# Altium integrated library Infineon_Power_MOSFET.IntLib: 1448 symbols (part 5 of 47)
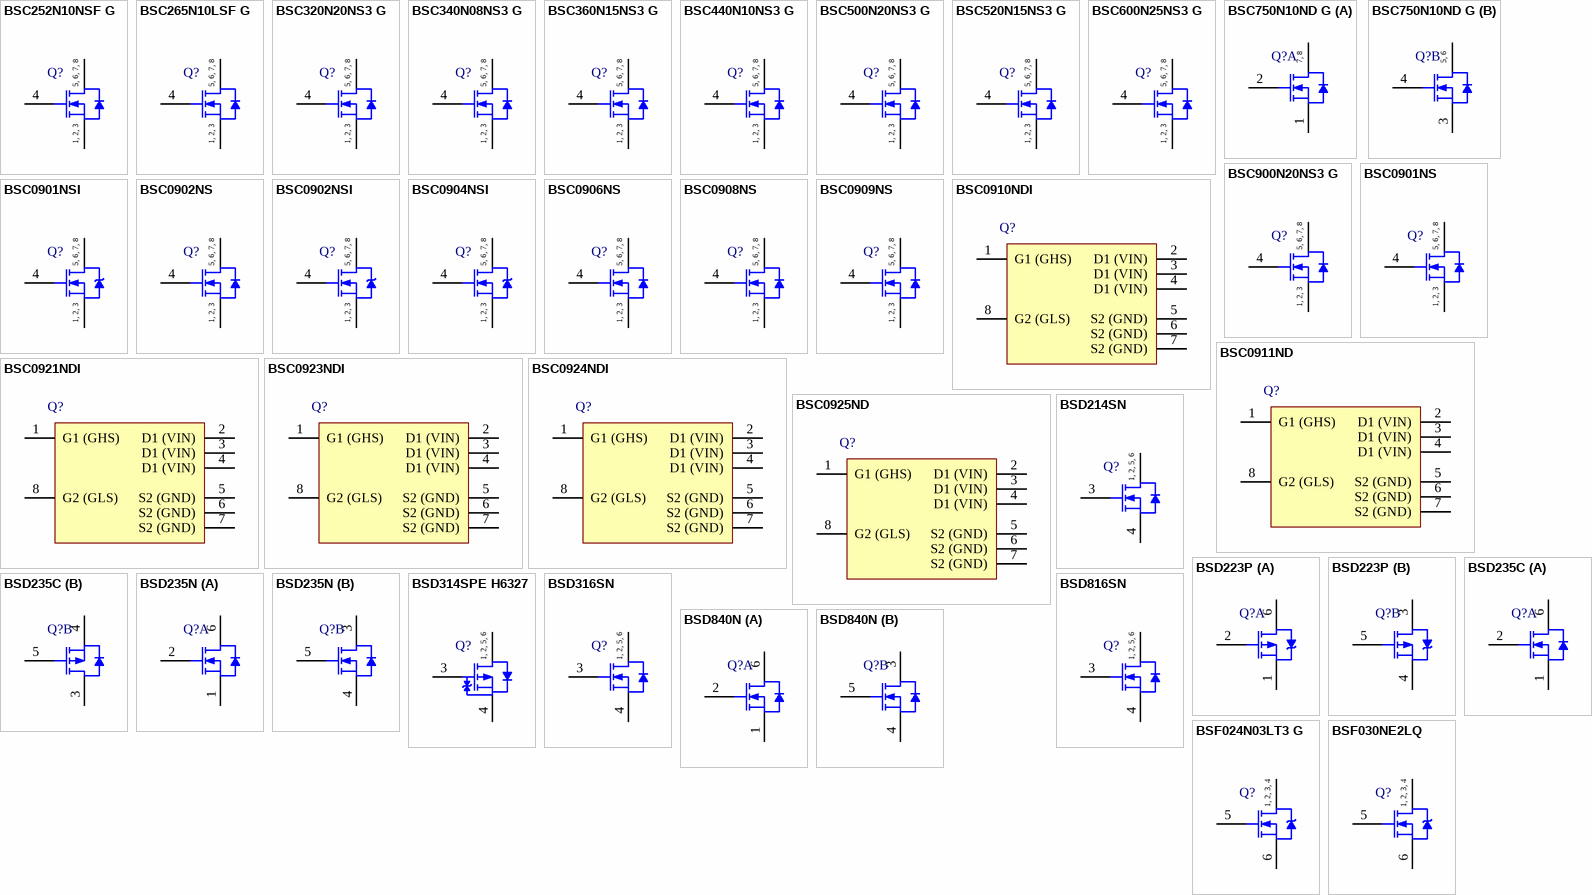
[diagram p41: symbols BSC252N10NSF G to BSF030NE2LQ]

## BSC520N15NS3 G
designator Q?
N-Channel OptiMOS 3 Power-Transistor, 150 V VDS, 21 A ID, -55 to 150 degC, PG-TDSON-8-1, Reel, Green; Manufacturer: Infineon; PartNumber: BSC520N15NS3 G; Green: TRUE; ID (max): 21 A; IDpuls (max): 84 A; Polarity: N; Ptot (max): 57 W; QG: 8.7 nC; RDS (on) (max): 52 mOhm; Rth: 2.2 K/W; RthJA (max): 50 K/W; VDS (max): 150 V; VGS(th) (max): 4 V; VGS(th) (min): 2 V; DatasheetVersion: Rev. 2.2; PackageReference: PG-TDSON-8-1; PackageDescription: 8-Pin Plastic (Green) Thin Dual Small Outline Non-Leaded Package, 5.15 x 5.9 mm Body, 1.27 mm Pitch; Supplier 1: Mouser; Supplier Part Number 1: 726-BSC520N15NS3GXT; Supplier 2: Newark; Supplier Part Number 2: 47W3314; Supplier 3: Farnell; Supplier Part Number 3: 2212818; Supplier 4: Digi-Key; Supplier Part Number 4: BSC520N15NS3 GTR-ND; Supplier 5: Digi-Key; Supplier Part Number 5: BSC520N15NS3 GCT-ND; Supplier 6: Digi-Key; Supplier Part Number 6: BSC520N15NS3 GDKR-ND; Halogen-free: TRUE; Packing: Reel; RthJC (max): 2.2 K/W; Mounting Technology: Surface Mount; ComponentLink1Description: Manufacturer URL; ComponentLink1URL: http://www.infineon.com/; ComponentLink2Description: Datasheet; ComponentLink2URL: http://www.infineon.com/dgdl/BSC520N15NS3+Rev2.2.pdf?folderId=db3a304313b8b5a60113cee8763b02d7&fileId=db3a30432239cccd0122eee57d9b21a4; ComponentLink3Description: Package Specification; ComponentLink3URL: http://www.infineon.com/cms/packages/SMD_-_Surface_Mounted_Devices/P-PG-TDSON/P-PG-TDSON-08-01x_2x_3.html?__locale=en
footprint INF-PG-TDSON-8-1_V (TDSON, 8-Leads, Body 6.15x5.15mm, Pitch 1.27mm)
pins: 1 SOURCE, 2 SOURCE, 3 SOURCE, 4 GATE, 5 DRAIN, 6 DRAIN, 7 DRAIN, 8 DRAIN
text: 5, 6, 7, 8; 1, 2, 3

## BSC600N25NS3 G
designator Q?
N-Channel OptiMOS 3 Power-Transistor, 250 V VDS, 25 A ID, -55 to 150 degC, PG-TDSON-8-1, Reel, Green; Manufacturer: Infineon; PartNumber: BSC600N25NS3 G; Green: TRUE; ID (max): 25 A; IDpuls (max): 100 A; Polarity: N; Ptot (max): 125 W; QG: 22 nC; RDS (on) (max): 60 mOhm; Rth: 1 K/W; RthJA (max): 75 K/W; VDS (max): 250 V; VGS(th) (max): 4 V; VGS(th) (min): 2 V; DatasheetVersion: Rev. 2.4; PackageReference: PG-TDSON-8-1; PackageDescription: 8-Pin Plastic (Green) Thin Dual Small Outline Non-Leaded Package, 5.15 x 5.9 mm Body, 1.27 mm Pitch; Supplier 1: Mouser; Supplier Part Number 1: 726-BSC600N25NS3GXT; Supplier 2: Newark; Supplier Part Number 2: 79X1338; Supplier 3: Farnell; Supplier Part Number 3: 2432713; Supplier 4: Digi-Key; Supplier Part Number 4: BSC600N25NS3 GTR-ND; Supplier 5: Digi-Key; Supplier Part Number 5: BSC600N25NS3 GCT-ND; Supplier 6: Digi-Key; Supplier Part Number 6: BSC600N25NS3 GDKR-ND; Halogen-free: TRUE; Packing: Reel; RthJC (max): 1 K/W; Mounting Technology: Surface Mount; ComponentLink1Description: Manufacturer URL; ComponentLink1URL: http://www.infineon.com/; ComponentLink2Description: Datasheet; ComponentLink2URL: http://www.infineon.com/dgdl/BSC600N25NS3+G+Rev2.4.pdf?folderId=db3a3043163797a6011637d4bae7003b&fileId=db3a3043243b5f17012496ab13871948; ComponentLink3Description: Package Specification; ComponentLink3URL: http://www.infineon.com/cms/packages/SMD_-_Surface_Mounted_Devices/P-PG-TDSON/P-PG-TDSON-08-01x_2x_3.html?__locale=en
footprint INF-PG-TDSON-8-1_V (TDSON, 8-Leads, Body 6.15x5.15mm, Pitch 1.27mm)
pins: 1 SOURCE, 2 SOURCE, 3 SOURCE, 4 GATE, 5 DRAIN, 6 DRAIN, 7 DRAIN, 8 DRAIN
text: 5, 6, 7, 8; 1, 2, 3

## BSC750N10ND G
designator Q?
N-Channel OptiMOS 2 Power-Transistor, 100 V VDS, 13 A ID, -55 to 150 degC, PG-TDSON-8-4, Reel, Green; Manufacturer: Infineon; PartNumber: BSC750N10ND G; Green: TRUE; ID (max): 13 A; IDpuls (max): 52 A; Polarity: N; Ptot (max): 26 W; QG: 8 nC; RDS (on) (max): 75 mOhm; Rth: 4.9 K/W; RthJA (max): 85 K/W; VDS (max): 100 V; VGS(th) (max): 4 V; VGS(th) (min): 2 V; DatasheetVersion: Rev. 1.05; PackageVersion: Rev. 03; PackageReference: PG-TDSON-8-4; PackageDescription: 8-Pin Plastic (Green) Thin Dual Small Outline Non-Leaded Package, 5.15 x 5.9 mm Body, 1.27 mm Pitch; Supplier 1: Mouser; Supplier Part Number 1: 726-BSC750N10NDG; Supplier 2: Newark; Supplier Part Number 2: 60R2523; Supplier 3: Farnell; Supplier Part Number 3: 1775481; Supplier 4: Digi-Key; Supplier Part Number 4: BSC750N10ND GTR-ND; Supplier 5: Digi-Key; Supplier Part Number 5: BSC750N10ND GCT-ND; Supplier 6: Digi-Key; Supplier Part Number 6: BSC750N10ND GDKR-ND; Halogen-free: TRUE; Packing: Reel; RthJC (max): 4.9 K/W; Mounting Technology: Surface Mount; ComponentLink1Description: Manufacturer URL; ComponentLink1URL: http://www.infineon.com/; ComponentLink2Description: Datasheet; ComponentLink2URL: http://www.infineon.com/dgdl/BSC750N10ND_rev15.pdf?folderId=db3a3043156fd5730115c7d50620107c&fileId=db3a30431689f4420116e7486f820df3; ComponentLink3Description: Package Specification; ComponentLink3URL: http://www.infineon.com/cms/packages/SMD_-_Surface_Mounted_Devices/P-PG-TDSON/P-PG-TDSON-08-04.html?__locale=en
footprint INF-PG-TDSON-8-4_V (SON, 8-Leads, Body 5.9x5.15mm, Pitch 1.27mm)
part A pins: 1 S1, 2 G1, 7 D1, 8 D1
part B pins: 3 S2, 4 G2, 5 D2, 6 D2
part A text: 7, 8
part B text: 5, 6

## BSC900N20NS3 G
designator Q?
N-Channel OptiMOS 3 Power-Transistor, 200 V VDS, 15.2 A ID, -55 to 150 degC, PG-TDSON-8-1, Reel, Green; Manufacturer: Infineon; PartNumber: BSC900N20NS3 G; Green: TRUE; ID (max): 15.2 A; IDpuls (max): 61 A; Polarity: N; Ptot (max): 62.5 W; QG: 9 nC; RDS (on) (max): 90 mOhm; Rth: 2 K/W; RthJA (max): 50 K/W; VDS (max): 200 V; VGS(th) (max): 4 V; VGS(th) (min): 2 V; DatasheetVersion: Rev. 2.2; PackageReference: PG-TDSON-8-1; PackageDescription: 8-Pin Plastic (Green) Thin Dual Small Outline Non-Leaded Package, 5.15 x 5.9 mm Body, 1.27 mm Pitch; Supplier 1: Digi-Key; Supplier Part Number 1: BSC900N20NS3GTR-ND; Supplier 2: Digi-Key; Supplier Part Number 2: BSC900N20NS3GCT-ND; Supplier 3: Digi-Key; Supplier Part Number 3: BSC900N20NS3GDKR-ND; Halogen-free: TRUE; Packing: Reel; RthJC (max): 2 K/W; Mounting Technology: Surface Mount; ComponentLink1Description: Manufacturer URL; ComponentLink1URL: http://www.infineon.com/; ComponentLink2Description: Datasheet; ComponentLink2URL: http://www.infineon.com/dgdl/BSC900N20NS3+Rev2.2.pdf?folderId=db3a304325305e6d012596c6ca7b290a&fileId=db3a30432ad629a6012b144f6b0619db; ComponentLink3Description: Package Specification; ComponentLink3URL: http://www.infineon.com/cms/packages/SMD_-_Surface_Mounted_Devices/P-PG-TDSON/P-PG-TDSON-08-01x_2x_3.html?__locale=en
footprint INF-PG-TDSON-8-1_V (TDSON, 8-Leads, Body 6.15x5.15mm, Pitch 1.27mm)
pins: 1 SOURCE, 2 SOURCE, 3 SOURCE, 4 GATE, 5 DRAIN, 6 DRAIN, 7 DRAIN, 8 DRAIN
text: 5, 6, 7, 8; 1, 2, 3

## BSC0901NS
designator Q?
N-Channel OptiMOS Power-MOSFET, 30 V VDS, 100 A ID, -55 to 150 degC, PG-TDSON-8-1, Reel, Green; Manufacturer: Infineon; PartNumber: BSC0901NS; Green: TRUE; ID (max): 100 A; IDpuls (max): 400 A; Polarity: N; Ptot (max): 69 W; QG: 22 nC; RDS (on) (max): 1.9 mOhm; RDS (on) (max) (@4.5V): 2.4 mOhm; Rth: 1.8 K/W; RthJA (max): 50 K/W; VDS (max): 30 V; VGS(th) (max): 2 V; VGS(th) (min): 1.2 V; DatasheetVersion: Rev. 2.1; PackageReference: PG-TDSON-8-1; PackageDescription: 8-Pin Plastic (Green) Thin Dual Small Outline Non-Leaded Package, 5.15 x 5.9 mm Body, 1.27 mm Pitch; Supplier 1: Mouser; Supplier Part Number 1: 726-BSC0901NS; Supplier 2: Digi-Key; Supplier Part Number 2: BSC0901NSTR-ND; Supplier 3: Digi-Key; Supplier Part Number 3: BSC0901NSCT-ND; Supplier 4: Digi-Key; Supplier Part Number 4: BSC0901NSDKR-ND; Halogen-free: TRUE; Packing: Reel; RthJC (max): 1.8 K/W; Mounting Technology: Surface Mount; ComponentLink1Description: Manufacturer URL; ComponentLink1URL: http://www.infineon.com/; ComponentLink2Description: Datasheet; ComponentLink2URL: http://www.infineon.com/dgdl/BSC0901NS_Rev+2.1_.pdf?folderId=db3a304313b8b5a60113cee8763b02d7&fileId=db3a30432c64a60d012cbc8040080376; ComponentLink3Description: Package Specification; ComponentLink3URL: http://www.infineon.com/cms/packages/SMD_-_Surface_Mounted_Devices/P-PG-TDSON/P-PG-TDSON-08-01x_2x_3.html?__locale=en
footprint INF-PG-TDSON-8-1_V (TDSON, 8-Leads, Body 6.15x5.15mm, Pitch 1.27mm)
pins: 1 SOURCE, 2 SOURCE, 3 SOURCE, 4 GATE, 5 DRAIN, 6 DRAIN, 7 DRAIN, 8 DRAIN
text: 5, 6, 7, 8; 1, 2, 3

## BSC0901NSI
designator Q?
N-Channel OptiMOS Power-MOSFET, 30 V VDS, 100 A ID, -55 to 150 degC, PG-TDSON-8-1, Reel, Green; Manufacturer: Infineon; PartNumber: BSC0901NSI; Green: TRUE; ID (max): 100 A; IDpuls (max): 400 A; Polarity: N; Ptot (max): 69 W; QG: 41 nC; RDS (on) (max): 2 mOhm; RDS (on) (max) (@4.5V): 2.6 mOhm; Rth: 1.8 K/W; RthJA (max): 50 K/W; VDS (max): 30 V; VGS(th) (max): 2.2 V; VGS(th) (min): 1 V; DatasheetVersion: Rev. 2.2; PackageReference: PG-TDSON-8-1; PackageDescription: 8-Pin Plastic (Green) Thin Dual Small Outline Non-Leaded Package, 5.15 x 5.9 mm Body, 1.27 mm Pitch; Supplier 1: Digi-Key; Supplier Part Number 1: BSC0901NSITR-ND; Supplier 2: Digi-Key; Supplier Part Number 2: BSC0901NSICT-ND; Supplier 3: Digi-Key; Supplier Part Number 3: BSC0901NSIDKR-ND; Halogen-free: TRUE; Packing: Reel; RthJC (max): 1.8 K/W; Mounting Technology: Surface Mount; ComponentLink1Description: Manufacturer URL; ComponentLink1URL: http://www.infineon.com/; ComponentLink2Description: Datasheet; ComponentLink2URL: http://www.infineon.com/dgdl/BSC0901NSI_rev2.2_.pdf?folderId=db3a304313b8b5a60113cee8763b02d7&fileId=db3a30432f29829e012f2aa7bdc30067; ComponentLink3Description: Package Specification; ComponentLink3URL: http://www.infineon.com/cms/packages/SMD_-_Surface_Mounted_Devices/P-PG-TDSON/P-PG-TDSON-08-01x_2x_3.html?__locale=en
footprint INF-PG-TDSON-8-1_V (TDSON, 8-Leads, Body 6.15x5.15mm, Pitch 1.27mm)
pins: 1 SOURCE, 2 SOURCE, 3 SOURCE, 4 GATE, 5 DRAIN, 6 DRAIN, 7 DRAIN, 8 DRAIN
text: 5, 6, 7, 8; 1, 2, 3

## BSC0902NS
designator Q?
N-Channel OptiMOS Power-MOSFET, 30 V VDS, 100 A ID, -55 to 150 degC, PG-TDSON-8-1, Reel, Green; Manufacturer: Infineon; PartNumber: BSC0902NS; Green: TRUE; ID (max): 100 A; IDpuls (max): 400 A; Polarity: N; Ptot (max): 48 W; QG: 13 nC; RDS (on) (max): 2.6 mOhm; RDS (on) (max) (@4.5V): 3.5 mOhm; Rth: 2.6 K/W; RthJA (max): 50 K/W; VDS (max): 30 V; VGS(th) (max): 2 V; VGS(th) (min): 1.2 V; DatasheetVersion: Rev. 2.1; PackageReference: PG-TDSON-8-1; PackageDescription: 8-Pin Plastic (Green) Thin Dual Small Outline Non-Leaded Package, 5.15 x 5.9 mm Body, 1.27 mm Pitch; Supplier 1: Mouser; Supplier Part Number 1: 726-BSC0902NS; Supplier 2: Newark; Supplier Part Number 2: 47W3310; Supplier 3: Farnell; Supplier Part Number 3: 2212827; Supplier 4: Digi-Key; Supplier Part Number 4: BSC0902NSTR-ND; Supplier 5: Digi-Key; Supplier Part Number 5: BSC0902NSCT-ND; Supplier 6: Digi-Key; Supplier Part Number 6: BSC0902NSDKR-ND; Halogen-free: TRUE; Packing: Reel; RthJC (max): 2.6 K/W; Mounting Technology: Surface Mount; ComponentLink1Description: Manufacturer URL; ComponentLink1URL: http://www.infineon.com/; ComponentLink2Description: Datasheet; ComponentLink2URL: http://www.infineon.com/dgdl/BSC0902NS_Rev+2.1.pdf?folderId=db3a304313b8b5a60113cee8763b02d7&fileId=db3a30432c64a60d012cc053cffb38b5; ComponentLink3Description: Package Specification; ComponentLink3URL: http://www.infineon.com/cms/packages/SMD_-_Surface_Mounted_Devices/P-PG-TDSON/P-PG-TDSON-08-01x_2x_3.html?__locale=en
footprint INF-PG-TDSON-8-1_V (TDSON, 8-Leads, Body 6.15x5.15mm, Pitch 1.27mm)
pins: 1 SOURCE, 2 SOURCE, 3 SOURCE, 4 GATE, 5 DRAIN, 6 DRAIN, 7 DRAIN, 8 DRAIN
text: 5, 6, 7, 8; 1, 2, 3

## BSC0902NSI
designator Q?
N-Channel OptiMOS Power-MOSFET, 30 V VDS, 100 A ID, -55 to 150 degC, PG-TDSON-8-1, Reel, Green; Manufacturer: Infineon; PartNumber: BSC0902NSI; Green: TRUE; ID (max): 100 A; IDpuls (max): 400 A; Polarity: N; Ptot (max): 48 W; QG: 12.2 nC; RDS (on) (max): 2.8 mOhm; RDS (on) (max) (@4.5V): 3.7 mOhm; Rth: 2.6 K/W; RthJA (max): 50 K/W; VDS (max): 30 V; VGS(th) (max): 2 V; VGS(th) (min): 1.2 V; DatasheetVersion: Rev. 2.1; PackageReference: PG-TDSON-8-1; PackageDescription: 8-Pin Plastic (Green) Thin Dual Small Outline Non-Leaded Package, 5.15 x 5.9 mm Body, 1.27 mm Pitch; Supplier 1: Mouser; Supplier Part Number 1: 726-BSC0902NSI; Supplier 2: Digi-Key; Supplier Part Number 2: BSC0902NSITR-ND; Supplier 3: Digi-Key; Supplier Part Number 3: BSC0902NSICT-ND; Supplier 4: Digi-Key; Supplier Part Number 4: BSC0902NSIDKR-ND; Halogen-free: TRUE; Packing: Reel; RthJC (max): 2.6 K/W; Mounting Technology: Surface Mount; ComponentLink1Description: Manufacturer URL; ComponentLink1URL: http://www.infineon.com/; ComponentLink2Description: Datasheet; ComponentLink2URL: http://www.infineon.com/dgdl/BSC0902NSI_Rev_2.1.pdf?folderId=db3a304313b8b5a60113cee8763b02d7&fileId=db3a30433072cd8f01308ea027703424; ComponentLink3Description: Package Specification; ComponentLink3URL: http://www.infineon.com/cms/packages/SMD_-_Surface_Mounted_Devices/P-PG-TDSON/P-PG-TDSON-08-01x_2x_3.html?__locale=en
footprint INF-PG-TDSON-8-1_V (TDSON, 8-Leads, Body 6.15x5.15mm, Pitch 1.27mm)
pins: 1 SOURCE, 2 SOURCE, 3 SOURCE, 4 GATE, 5 DRAIN, 6 DRAIN, 7 DRAIN, 8 DRAIN
text: 5, 6, 7, 8; 1, 2, 3

## BSC0904NSI
designator Q?
N-Channel OptiMOS Power-MOSFET, 30 V VDS, 78 A ID, -55 to 150 degC, PG-TDSON-8-1, Reel, Green; Manufacturer: Infineon; PartNumber: BSC0904NSI; Green: TRUE; ID (max): 78 A; IDpuls (max): 312 A; Polarity: N; Ptot (max): 37 W; QG: 17 nC; RDS (on) (max): 3.7 mOhm; RDS (on) (max) (@4.5V): 5.2 mOhm; Rth: 3.4 K/W; RthJA (max): 50 K/W; VDS (max): 30 V; VGS(th) (max): 2.2 V; VGS(th) (min): 1 V; DatasheetVersion: Rev. 2.2; PackageReference: PG-TDSON-8-1; PackageDescription: 8-Pin Plastic (Green) Thin Dual Small Outline Non-Leaded Package, 5.15 x 5.9 mm Body, 1.27 mm Pitch; Supplier 1: Mouser; Supplier Part Number 1: 726-BSC0904NSI; Supplier 2: Digi-Key; Supplier Part Number 2: BSC0904NSITR-ND; Supplier 3: Digi-Key; Supplier Part Number 3: BSC0904NSICT-ND; Supplier 4: Digi-Key; Supplier Part Number 4: BSC0904NSIDKR-ND; Halogen-free: TRUE; Packing: Reel; RthJC (max): 3.4 K/W; Mounting Technology: Surface Mount; ComponentLink1Description: Manufacturer URL; ComponentLink1URL: http://www.infineon.com/; ComponentLink2Description: Datasheet; ComponentLink2URL: http://www.infineon.com/dgdl/BSC0904NSI_Rev+2.2.pdf?folderId=db3a304313b8b5a60113cee8763b02d7&fileId=db3a30432f29829e012f3073397339ef; ComponentLink3Description: Package Specification; ComponentLink3URL: http://www.infineon.com/cms/packages/SMD_-_Surface_Mounted_Devices/P-PG-TDSON/P-PG-TDSON-08-01x_2x_3.html?__locale=en
footprint INF-PG-TDSON-8-1_V (TDSON, 8-Leads, Body 6.15x5.15mm, Pitch 1.27mm)
pins: 1 SOURCE, 2 SOURCE, 3 SOURCE, 4 GATE, 5 DRAIN, 6 DRAIN, 7 DRAIN, 8 DRAIN
text: 5, 6, 7, 8; 1, 2, 3

## BSC0906NS
designator Q?
N-Channel OptiMOS Power-MOSFET, 30 V VDS, 63 A ID, -55 to 150 degC, PG-TDSON-8-1, Reel, Green; Manufacturer: Infineon; PartNumber: BSC0906NS; Green: TRUE; ID (max): 63 A; IDpuls (max): 252 A; Polarity: N; Ptot (max): 30 W; QG: 6.7 nC; RDS (on) (max): 4.5 mOhm; RDS (on) (max) (@4.5V): 6.4 mOhm; Rth: 4.2 K/W; RthJA (max): 50 K/W; VDS (max): 30 V; VGS(th) (max): 2 V; VGS(th) (min): 1.2 V; DatasheetVersion: Rev. 2.0; PackageReference: PG-TDSON-8-1; PackageDescription: 8-Pin Plastic (Green) Thin Dual Small Outline Non-Leaded Package, 5.15 x 5.9 mm Body, 1.27 mm Pitch; Supplier 1: Mouser; Supplier Part Number 1: 726-BSC0906NS; Supplier 2: Digi-Key; Supplier Part Number 2: BSC0906NSTR-ND; Supplier 3: Digi-Key; Supplier Part Number 3: BSC0906NSCT-ND; Supplier 4: Digi-Key; Supplier Part Number 4: BSC0906NSDKR-ND; Halogen-free: TRUE; Packing: Reel; RthJC (max): 4.2 K/W; Mounting Technology: Surface Mount; ComponentLink1Description: Manufacturer URL; ComponentLink1URL: http://www.infineon.com/; ComponentLink2Description: Datasheet; ComponentLink2URL: http://www.infineon.com/dgdl/BSC0906NS_Rev+2.pdf?folderId=db3a304313b8b5a60113cee8763b02d7&fileId=db3a30433072cd8f0130986c816b2f8c; ComponentLink3Description: Package Specification; ComponentLink3URL: http://www.infineon.com/cms/packages/SMD_-_Surface_Mounted_Devices/P-PG-TDSON/P-PG-TDSON-08-01x_2x_3.html?__locale=en
footprint INF-PG-TDSON-8-1_V (TDSON, 8-Leads, Body 6.15x5.15mm, Pitch 1.27mm)
pins: 1 SOURCE, 2 SOURCE, 3 SOURCE, 4 GATE, 5 DRAIN, 6 DRAIN, 7 DRAIN, 8 DRAIN
text: 5, 6, 7, 8; 1, 2, 3

## BSC0908NS
designator Q?
N-Channel OptiMOS Power-MOSFET, 30 V VDS, 49 A ID, -55 to 150 degC, PG-TDSON-8-1, Reel, Green; Manufacturer: Infineon; PartNumber: BSC0908NS; Green: TRUE; ID (max): 49 A; IDpuls (max): 196 A; Polarity: N; Ptot (max): 30 W; QG: 6.8 nC; RDS (on) (max): 8 mOhm; RDS (on) (max) (@4.5V): 12.8 mOhm; Rth: 4.2 K/W; RthJA (max): 50 K/W; VDS (max): 30 V; VGS(th) (max): 2.2 V; VGS(th) (min): 1 V; DatasheetVersion: Rev. 3.2; PackageReference: PG-TDSON-8-1; PackageDescription: 8-Pin Plastic (Green) Thin Dual Small Outline Non-Leaded Package, 5.15 x 5.9 mm Body, 1.27 mm Pitch; Supplier 1: Mouser; Supplier Part Number 1: 726-BSC0908NS; Supplier 2: Digi-Key; Supplier Part Number 2: BSC0908NSTR-ND; Supplier 3: Digi-Key; Supplier Part Number 3: BSC0908NSCT-ND; Supplier 4: Digi-Key; Supplier Part Number 4: BSC0908NSDKR-ND; Halogen-free: TRUE; Packing: Reel; RthJC (max): 4.2 K/W; Mounting Technology: Surface Mount; ComponentLink1Description: Manufacturer URL; ComponentLink1URL: http://www.infineon.com/; ComponentLink2Description: Datasheet; ComponentLink2URL: http://www.infineon.com/dgdl/BSC0908NS_Rev+3.2.pdf?folderId=db3a304313b8b5a60113cee8763b02d7&fileId=db3a30432a14dd54012a186853252ac0; ComponentLink3Description: Package Specification; ComponentLink3URL: http://www.infineon.com/cms/packages/SMD_-_Surface_Mounted_Devices/P-PG-TDSON/P-PG-TDSON-08-01x_2x_3.html?__locale=en
footprint INF-PG-TDSON-8-1_V (TDSON, 8-Leads, Body 6.15x5.15mm, Pitch 1.27mm)
pins: 1 SOURCE, 2 SOURCE, 3 SOURCE, 4 GATE, 5 DRAIN, 6 DRAIN, 7 DRAIN, 8 DRAIN
text: 5, 6, 7, 8; 1, 2, 3

## BSC0909NS
designator Q?
N-Channel OptiMOS Power-MOSFET, 30 V VDS, 44 A ID, -55 to 150 degC, PG-TDSON-8-1, Reel, Green; Manufacturer: Infineon; PartNumber: BSC0909NS; Green: TRUE; ID (max): 44 A; IDpuls (max): 176 A; Polarity: N; Ptot (max): 27 W; QG: 7.3 nC; RDS (on) (max): 9.2 mOhm; RDS (on) (max) (@4.5V): 11.8 mOhm; Rth: 4.6 K/W; RthJA (max): 50 K/W; VDS (max): 30 V; VGS(th) (max): 2 V; VGS(th) (min): 1 V; DatasheetVersion: Rev. 3.2; PackageReference: PG-TDSON-8-1; PackageDescription: 8-Pin Plastic (Green) Thin Dual Small Outline Non-Leaded Package, 5.15 x 5.9 mm Body, 1.27 mm Pitch; Supplier 1: Mouser; Supplier Part Number 1: 726-BSC0909NS; Supplier 2: Digi-Key; Supplier Part Number 2: BSC0909NSTR-ND; Supplier 3: Digi-Key; Supplier Part Number 3: BSC0909NSCT-ND; Supplier 4: Digi-Key; Supplier Part Number 4: BSC0909NSDKR-ND; Halogen-free: TRUE; Packing: Reel; RthJC (max): 4.6 K/W; Mounting Technology: Surface Mount; ComponentLink1Description: Manufacturer URL; ComponentLink1URL: http://www.infineon.com/; ComponentLink2Description: Datasheet; ComponentLink2URL: http://www.infineon.com/dgdl/BSC0909NS_Rev+3.2.pdf?folderId=db3a304313b8b5a60113cee8ed2a02db&fileId=db3a3043284aacd80128826aeb7653f0; ComponentLink3Description: Package Specification; ComponentLink3URL: http://www.infineon.com/cms/packages/SMD_-_Surface_Mounted_Devices/P-PG-TDSON/P-PG-TDSON-08-01x_2x_3.html?__locale=en
footprint INF-PG-TDSON-8-1_V (TDSON, 8-Leads, Body 6.15x5.15mm, Pitch 1.27mm)
pins: 1 SOURCE, 2 SOURCE, 3 SOURCE, 4 GATE, 5 DRAIN, 6 DRAIN, 7 DRAIN, 8 DRAIN
text: 5, 6, 7, 8; 1, 2, 3

## BSC0910NDI
designator Q?
N-Channel Dual OptiMOS MOSFET, 25 V VDS, 40 A ID, -55 to 150 degC, PG-TISON-8, Reel, Green; Manufacturer: Infineon; PartNumber: BSC0910NDI; Green: TRUE; ID (max): 40 A, 40 A; IDpuls (max): 160 A, 160 A; Polarity: N; Ptot (max): 2.5 W, 2.5 W; QG: 5 nC, 23 nC; RDS (on) (max): 4.6 mOhm, 1.2 mOhm; RDS (on) (max) (@4.5V): 5.9 mOhm, 1.6 mOhm; Rth: 4.5 K/W, 1.5 K/W; RthJA (max): 125 K/W, 125 K/W; RthJC (max): 4.5 K/W, 1.5 K/W; VDS (max): 25 V, 25 V; VGS(th) (max): 2 V, 2 V; VGS(th) (min): 0.8 V, 1 V; DatasheetVersion: Rev. 0.5; PackageVersion: Rev. 01, 09/2011; PackageReference: PG-TISON-8; PackageDescription: 8-Pin Plastic (Green) Small Outline Non-Leaded Package, 5 x 6 mm Body, 1.27 mm Pitch; Supplier 1: Mouser; Supplier Part Number 1: N/A; Halogen-free: TRUE; Packing: Reel; Mounting Technology: Surface Mount; ComponentLink1Description: Manufacturer URL; ComponentLink1URL: http://www.infineon.com/; ComponentLink2Description: Datasheet; ComponentLink2URL: http://www.infineon.com/dgdl/BSC0910NDI_Rev.5.pdf?folderId=db3a304313b8b5a60113cee8763b02d7&fileId=db3a304336ca04c90136cedc08b64926; ComponentLink3Description: Package Specification; ComponentLink3URL: http://www.infineon.com/dgdl/BSC0921NDI_Rev12.pdf?folderId=db3a304313b8b5a60113cee8763b02d7&fileId=db3a304336ca04c90136ca6892d00036
footprint INF-PG-TISON-8_A_V (TISON, 8-Leads, Body 6x5mm, Pitch 1.27mm)
pins: 1 G1 (GHS), 2 D1 (VIN), 3 D1 (VIN), 4 D1 (VIN), 5 S2 (GND), 6 S2 (GND), 7 S2 (GND), 8 G2 (GLS)

## BSC0911ND
designator Q?
N-Channel Dual OptiMOS MOSFET, 25 V VDS, 40 A ID, -55 to 150 degC, PG-TISON-8, Reel, Green; Manufacturer: Infineon; PartNumber: BSC0911ND; Green: TRUE; ID (max): 40 A, 40 A; IDpuls (max): 160 A, 160 A; Polarity: N; Ptot (max): 2.5 W, 2.5 W; QG: 7.7 nC, 25 nC; RDS (on) (max): 3.2 mOhm, 1.2 mOhm; RDS (on) (max) (@4.5V): 4.8 mOhm, 1.7 mOhm; Rth: 3.4 K/W, 1.5 K/W; RthJA (max): 125 K/W, 125 K/W; VDS (max): 25 V, 25 V; VGS(th) (max): 2 V; VGS(th) (min): 1.2 V; DatasheetVersion: Rev. 1.3; PackageVersion: Rev. 01, 09/2011; PackageReference: PG-TISON-8; PackageDescription: 8-Pin Plastic (Green) Small Outline Non-Leaded Package, 5 x 6 mm Body, 1.27 mm Pitch; Halogen-free: TRUE; Packing: Reel; RthJC (max): 3.4 K/W, 1.5 K/W; Mounting Technology: Surface Mount; ComponentLink1Description: Manufacturer URL; ComponentLink1URL: http://www.infineon.com/; ComponentLink2Description: Datasheet; ComponentLink2URL: http://www.infineon.com/dgdl/BSC0911ND_Rev.1.3.pdf?folderId=db3a304313b8b5a60113cee8763b02d7&fileId=db3a304336ca04c90136ceebf62c4946; ComponentLink3Description: Package Specification; ComponentLink3URL: http://www.infineon.com/dgdl/BSC0921NDI_Rev12.pdf?folderId=db3a304313b8b5a60113cee8763b02d7&fileId=db3a304336ca04c90136ca6892d00036
footprint INF-PG-TISON-8_A_V (TISON, 8-Leads, Body 6x5mm, Pitch 1.27mm)
pins: 1 G1 (GHS), 2 D1 (VIN), 3 D1 (VIN), 4 D1 (VIN), 5 S2 (GND), 6 S2 (GND), 7 S2 (GND), 8 G2 (GLS)

## BSC0921NDI
designator Q?
N-Channel Dual OptiMOS MOSFET, 30 V, 30 V VDS, 40 A, 40 A ID, -55 to 150 degC, PG-TISON-8, Reel, Green; Manufacturer: Infineon; PartNumber: BSC0921NDI; Green: TRUE; IDpuls (max): 160 A, 160 A; Polarity: N; Ptot (max): 2.5 W, 2.5 W; QG: 5.9 nC, 22 nC; RDS (on) (max): 5 mOhm, 1.5 mOhm; RDS (on) (max) (@4.5V): 7 mOhm, 2.1 mOhm; Rth: 4.5 K/W, 1.7 K/W; RthJA (max): 125 K/W, 125 K/W; VGS(th) (max): 2 V; VGS(th) (min): 1.2 V; DatasheetVersion: Rev. 1.02; PackageVersion: Rev. 01, 09/2011; PackageReference: PG-TISON-8; PackageDescription: 8-Pin Plastic (Green) Small Outline Non-Leaded Package, 5 x 6 mm Body, 1.27 mm Pitch; Halogen-free: TRUE; ID (max): 40 A, 40 A; Packing: Reel; RthJC (max): 4.5 K/W, 1.7 K/W; VDS (max): 30 V, 30 V; Mounting Technology: Surface Mount; ComponentLink1Description: Manufacturer URL; ComponentLink1URL: http://www.infineon.com/; ComponentLink2Description: Datasheet; ComponentLink2URL: http://www.infineon.com/dgdl/BSC0921NDI_Rev12.pdf?folderId=db3a304313b8b5a60113cee8763b02d7&fileId=db3a304336ca04c90136ca6892d00036; ComponentLink3Description: Package Specification; ComponentLink3URL: http://www.infineon.com/dgdl/BSC0921NDI_Rev12.pdf?folderId=db3a304313b8b5a60113cee8763b02d7&fileId=db3a304336ca04c90136ca6892d00036
footprint INF-PG-TISON-8_A_V (TISON, 8-Leads, Body 6x5mm, Pitch 1.27mm)
pins: 1 G1 (GHS), 2 D1 (VIN), 3 D1 (VIN), 4 D1 (VIN), 5 S2 (GND), 6 S2 (GND), 7 S2 (GND), 8 G2 (GLS)

## BSC0923NDI
designator Q?
N-Channel Dual OptiMOS MOSFET, 30 V, 30 V VDS, 40 A, 40 A ID, -55 to 150 degC, PG-TISON-8, Reel, Green; Manufacturer: Infineon; PartNumber: BSC0923NDI; Green: TRUE; IDpuls (max): 160 A, 160 A; Polarity: N; Ptot (max): 2.5 W, 2.5 W; QG: 6.7 nC, 12 nC; RDS (on) (max): 5 mOhm, 2.8 mOhm; RDS (on) (max) (@4.5V): 7 mOhm, 3.7 mOhm; Rth: 4.2 K/W, 2.6 K/W; RthJA (max): 125 K/W, 125 K/W; VGS(th) (max): 2 V; VGS(th) (min): 1.2 V; DatasheetVersion: Rev. 1.01; PackageVersion: Rev. 01, 09/2011; PackageReference: PG-TISON-8; PackageDescription: 8-Pin Plastic (Green) Small Outline Non-Leaded Package, 5 x 6 mm Body, 1.27 mm Pitch; Halogen-free: TRUE; ID (max): 40 A, 40 A; Packing: Reel; RthJC (max): 4.2 K/W, 2.6 K/W; VDS (max): 30 V, 30 V; Mounting Technology: Surface Mount; ComponentLink1Description: Manufacturer URL; ComponentLink1URL: http://www.infineon.com/; ComponentLink2Description: Datasheet; ComponentLink2URL: http://www.infineon.com/dgdl/BSC0923NDI_Rev11.pdf?folderId=db3a304313b8b5a60113cee8763b02d7&fileId=db3a304336ca04c90136caa90c9e00b6; ComponentLink3Description: Package Specification; ComponentLink3URL: http://www.infineon.com/dgdl/BSC0921NDI_Rev12.pdf?folderId=db3a304313b8b5a60113cee8763b02d7&fileId=db3a304336ca04c90136ca6892d00036
footprint INF-PG-TISON-8_A_V (TISON, 8-Leads, Body 6x5mm, Pitch 1.27mm)
pins: 1 G1 (GHS), 2 D1 (VIN), 3 D1 (VIN), 4 D1 (VIN), 5 S2 (GND), 6 S2 (GND), 7 S2 (GND), 8 G2 (GLS)

## BSC0924NDI
designator Q?
N-Channel Dual OptiMOS MOSFET, 30 V, 30 V VDS, 40 A, 40 A ID, -55 to 150 degC, PG-TISON-8, Reel, Green; Manufacturer: Infineon; PartNumber: BSC0924NDI; Green: TRUE; IDpuls (max): 160 A, 160 A; Polarity: N; Ptot (max): 2.5 W, 2.5 W; QG: 6.7 nC, 8.5 nC; RDS (on) (max): 5 mOhm, 3.7 mOhm; RDS (on) (max) (@4.5V): 7 mOhm, 5.2 mOhm; Rth: 4.2 K/W, 3.4 K/W; RthJA (max): 125 K/W, 125 K/W; VGS(th) (max): 2 V; VGS(th) (min): 1.2 V; DatasheetVersion: Rev. 1.01; PackageVersion: Rev. 01, 09/2011; PackageReference: PG-TISON-8; PackageDescription: 8-Pin Plastic (Green) Small Outline Non-Leaded Package, 5 x 6 mm Body, 1.27 mm Pitch; Halogen-free: TRUE; ID (max): 40 A, 40 A; Packing: Reel; RthJC (max): 4.2 K/W, 3.4 K/W; VDS (max): 30 V, 30 V; Mounting Technology: Surface Mount; ComponentLink1Description: Manufacturer URL; ComponentLink1URL: http://www.infineon.com/; ComponentLink2Description: Datasheet; ComponentLink2URL: http://www.infineon.com/dgdl/BSC0924NDI_Rev.11.pdf?folderId=db3a304313b8b5a60113cee8763b02d7&fileId=db3a304336ca04c90136ceae245448f5; ComponentLink3Description: Package Specification; ComponentLink3URL: http://www.infineon.com/dgdl/BSC0921NDI_Rev12.pdf?folderId=db3a304313b8b5a60113cee8763b02d7&fileId=db3a304336ca04c90136ca6892d00036
footprint INF-PG-TISON-8_A_V (TISON, 8-Leads, Body 6x5mm, Pitch 1.27mm)
pins: 1 G1 (GHS), 2 D1 (VIN), 3 D1 (VIN), 4 D1 (VIN), 5 S2 (GND), 6 S2 (GND), 7 S2 (GND), 8 G2 (GLS)

## BSC0925ND
designator Q?
N-Channel OptiMOS Power-MOSFET, 30 V VDS, 40 A ID, -55 to 150 degC, PG-TISON-8, Reel, Green; Manufacturer: Infineon; PartNumber: BSC0925ND; Green: TRUE; ID (max): 40 A; IDpuls (max): 160 A; Polarity: N; Ptot (max): 30 W; QG: 6.7 nC; RDS (on) (max): 5 mOhm; RDS (on) (max) (@4.5V): 7 mOhm; Rth: 4.2 K/W; RthJA (max): 125 K/W; VDS (max): 30 V; VGS(th) (max): 2 V; VGS(th) (min): 1.2 V; DatasheetVersion: Rev. 1.0; PackageVersion: Rev. 01, 09/2011; PackageReference: PG-TISON-8; PackageDescription: 8-Pin Plastic (Green) Small Outline Non-Leaded Package, 5 x 6 mm Body, 1.27 mm Pitch; Halogen-free: TRUE; Packing: Reel; RthJC (max): 4.2 K/W; Mounting Technology: Surface Mount; ComponentLink1Description: Manufacturer URL; ComponentLink1URL: http://www.infineon.com/; ComponentLink2Description: Datasheet; ComponentLink2URL: http://www.infineon.com/dgdl/BSC0925ND_rev1+0.pdf?folderId=db3a304313b8b5a60113cee8763b02d7&fileId=db3a304336ca04c90136cec562a24914; ComponentLink3Description: Package Specification; ComponentLink3URL: http://www.infineon.com/dgdl/BSC0910NDI_Rev. 0.5.pdf?folderId=db3a304313b8b5a60113cee8763b02d7&fileId=db3a304336ca04c90136cedc08b64926
footprint INF-PG-TISON-8_V (TISON, 8-Leads, Body 6x5mm, Pitch 1.27mm, Thermal Pad 4x2.15mm)
pins: 1 G1 (GHS), 2 D1 (VIN), 3 D1 (VIN), 4 D1 (VIN), 5 S2 (GND), 6 S2 (GND), 7 S2 (GND), 8 G2 (GLS)

## BSD214SN
designator Q?
N-Channel OptiMOS 2 Small-Signal-Transistor, 20 V VDS, 1.5 A ID, -55 to 150 degC, PG-SOT-363, Reel, Green; Manufacturer: Infineon; PartNumber: BSD214SN; Green: TRUE; ID (max): 1.5 A; IDpuls (max): 6 A; Ptot (max): 0.5 W; QG: 0.8 nC; RDS (on) (max): 250 mOhm; RDS (on) (max) (@4.5V): 140 mOhm; RthJA (max): 250 K/W; VDS (max): 20 V; VGS(th) (max): 1.2 V; VGS(th) (min): 0.7 V; DatasheetVersion: Rev. 2.4; PackageVersion: Apr-08; PackageReference: PG-SOT-363; PackageDescription: 6-Pin Small Outline Transistor Package, 2 x 1.25 mm Body, 0.65 mm Pitch; Halogen-free: TRUE; Packing: Reel; RDS (on) (max) (@2.5V): 250 mOhm; Mounting Technology: Surface Mount; ComponentLink1Description: Manufacturer URL; ComponentLink1URL: http://www.infineon.com/; ComponentLink2Description: Datasheet; ComponentLink2URL: http://www.infineon.com/dgdl/BSD214SN_Rev_2.3.pdf?folderId=db3a3043156fd573011622e10b5c1f67&fileId=db3a30431add1d95011b01d1628230a0; ComponentLink3Description: Package Specification; ComponentLink3URL: http://www.infineon.com/dgdl/SOT363-Package_Overview.pdf?folderId=db3a30431936bc4b01195360bd8f3cdc&fileId=db3a30431936bc4b0119536b62bf3cf5
footprint INF-PG-SOT-363_N (SOT23, 3-Leads, Body 2x1.25mm, Pitch 0.65mm, IPC Medium Density)
footprint INF-PG-SOT-363_L (SOT23, 3-Leads, Body 2x1.25mm, Pitch 0.65mm, IPC High Density)
footprint INF-PG-SOT-363_M (SOT23, 3-Leads, Body 2x1.25mm, Pitch 0.65mm, IPC Low Density)
pins: 1 DRAIN, 2 DRAIN, 3 GATE, 4 SOURCE, 5 DRAIN, 6 DRAIN
text: 1, 2, 5, 6

## BSD223P
designator Q?
P-Channel OptiMOS P Small-Signal-Transistor, -20 V VDS, -0.39 A ID, -55 to 150 degC, PG-SOT-363, Reel, Green; Manufacturer: Infineon; PartNumber: BSD223P; Green: TRUE; ID (max): -0.39 A; IDpuls (max): -1.56 A; Pto t (max): 0.25 W; QG: -0.5 nC; RDS (on) (max) (@2.5V): 2,100 mOhm; RDS (on) (max) (@4.5V): 1,200 mOhm; Rth: 180 K/W; VDS (max): -20 V; VGS(th) (max): -1.2 V; VGS(th) (min): -0.6 V; DatasheetVersion: Rev. 1.5; PackageVersion: Apr-08; PackageReference: PG-SOT-363; PackageDescription: 6-Pin Small Outline Transistor Package, 2 x 1.25 mm Body, 0.65 mm Pitch; Supplier 1: Digi-Key; Supplier Part Number 1: BSD223PINTR-ND; Supplier 2: Digi-Key; Supplier Part Number 2: BSD223PINCT-ND; Supplier 3: Digi-Key; Supplier Part Number 3: BSD223PINDKR-ND; Halogen-free: TRUE; Packing: Reel; Mounting Technology: Surface Mount; ComponentLink1Description: Manufacturer URL; ComponentLink1URL: http://www.infineon.com/; ComponentLink2Description: Datasheet; ComponentLink2URL: http://www.infineon.com/dgdl/BSD223P_Rev1.5.pdf?folderId=db3a304314dca38901154a72e3951a65&fileId=db3a30433580b37101358619d0af33b9; ComponentLink3Description: Package Specification; ComponentLink3URL: http://www.infineon.com/dgdl/SOT363-Package_Overview.pdf?folderId=db3a30431936bc4b01195360bd8f3cdc&fileId=db3a30431936bc4b0119536b62bf3cf5
footprint INF-PG-SOT-363_N (SOT23, 3-Leads, Body 2x1.25mm, Pitch 0.65mm, IPC Medium Density)
footprint INF-PG-SOT-363_L (SOT23, 3-Leads, Body 2x1.25mm, Pitch 0.65mm, IPC High Density)
footprint INF-PG-SOT-363_M (SOT23, 3-Leads, Body 2x1.25mm, Pitch 0.65mm, IPC Low Density)
part A pins: 1 SOURCE, 2 GATE, 6 DRAIN
part B pins: 3 DRAIN, 4 SOURCE, 5 GATE

## BSD235C
designator Q?
OptiMOS 2 + OptiMOS P2 Small-Signal-Transistor, 20 V, -20V VDS, 0.95 A, -0.53 A ID, -55 to 150 degC, PG-SOT363, Reel, Green; Manufacturer: Infineon; PartNumber: BSD235C; Green: TRUE; ID (max): 0.95 A -0.53 A; IDpuls (max): 3.8 A -2.1 A; Mode: Enhancement; Ptot< (max): 0.5 W 0.5 W; QG: 0.34 nC -0.4 nC; RDS (on) (max) (@2.5V): 600 mOhm 2,100 mOhm; RDS (on) (max) (@4.5V): 350 mOhm 1,200 mOhm; VDS (max): 20 V -20V; VGS(th) (max): 1.2 V -0.6 V; VGS(th) (min): 0.7 V -1.2 V; DatasheetVersion: Rev. 2.3; PackageVersion: Apr-08; PackageReference: PG-SOT363; PackageDescription: 6-Pin Small Outline Transistor Package, 2 x 1.25 mm Body, 0.65 mm Pitch; Halogen-free: TRUE; Packing: Reel; RDS (on)< (max): 600 mOhm 2,100 mOhm; Technology: OptiMOS-2; Mounting Technology: Surface Mount; ComponentLink1Description: Manufacturer URL; ComponentLink1URL: http://www.infineon.com/; ComponentLink2Description: Datasheet; ComponentLink2URL: http://www.infineon.com/dgdl/BSD235C_rev2.3.pdf?folderId=db3a3043156fd573011622e10b5c1f67&fileId=db3a30433580b371013585a2d0d53326; ComponentLink3Description: Package Specification; ComponentLink3URL: http://www.infineon.com/dgdl/SOT363-Package_Overview.pdf?folderId=db3a30431936bc4b01195360bd8f3cdc&fileId=db3a30431936bc4b0119536b62bf3cf5
footprint INF-PG-SOT363_N (SOT23, 3-Leads, Body 2x1.25mm, Pitch 0.65mm, IPC Medium Density)
footprint INF-PG-SOT363_L (SOT23, 3-Leads, Body 2x1.25mm, Pitch 0.65mm, IPC High Density)
footprint INF-PG-SOT363_M (SOT23, 3-Leads, Body 2x1.25mm, Pitch 0.65mm, IPC Low Density)
part A pins: 1 SOURCE (N), 2 GATE (N), 6 DRAIN (N)
part B pins: 3 DRAIN (P), 4 SOURCE (P), 5 GATE (P)

## BSD235N
designator Q?
N-Channel OptiMOS 2 Small-Signal-Transistor, 20 V VDS, 0.95 A ID, -55 to 150 degC, PG-SOT-363, Reel, Green; Manufacturer: Infineon; PartNumber: BSD235N; Green: TRUE; ID (max): 0.95 A; IDpuls (max): 3.8 A; Ptot (max): 0.5 W; QG: 0.32 nC; RDS (on) (max): 600 mOhm; RDS (on) (max) (@4.5V): 350 mOhm; RthJA (max): 250 K/W; VDS (max): 20 V; VGS(th) (max): 1.2 V; VGS(th) (min): 0.7 V; DatasheetVersion: Rev. 2.3; PackageVersion: Apr-08; PackageReference: PG-SOT-363; PackageDescription: 6-Pin Small Outline Transistor Package, 2 x 1.25 mm Body, 0.65 mm Pitch; Halogen-free: TRUE; Packing: Reel; RDS (on) (max) (@2.5V): 600 mOhm; Mounting Technology: Surface Mount; ComponentLink1Description: Manufacturer URL; ComponentLink1URL: http://www.infineon.com/; ComponentLink2Description: Datasheet; ComponentLink2URL: http://www.infineon.com/dgdl/BSD235N_Rev2.3.pdf?folderId=db3a3043156fd573011622e10b5c1f67&fileId=db3a30431add1d95011afc70075c04e0; ComponentLink3Description: Package Specification; ComponentLink3URL: http://www.infineon.com/dgdl/SOT363-Package_Overview.pdf?folderId=db3a30431936bc4b01195360bd8f3cdc&fileId=db3a30431936bc4b0119536b62bf3cf5
footprint INF-PG-SOT-363_N (SOT23, 3-Leads, Body 2x1.25mm, Pitch 0.65mm, IPC Medium Density)
footprint INF-PG-SOT-363_L (SOT23, 3-Leads, Body 2x1.25mm, Pitch 0.65mm, IPC High Density)
footprint INF-PG-SOT-363_M (SOT23, 3-Leads, Body 2x1.25mm, Pitch 0.65mm, IPC Low Density)
part A pins: 1 SOURCE, 2 GATE, 6 DRAIN
part B pins: 3 DRAIN, 4 SOURCE, 5 GATE

## BSD314SPE H6327
designator Q?
P-Channel OptiMOS P3 Small-Signal-Transistor, -30 V VDS, -1.5 A ID, -55 to 150 degC, PG-SOT-363, Reel, Green; Manufacturer: Infineon; PartNumber: BSD314SPE H6327; Green: TRUE; ID (max): -1.5 A; IDpuls (max): -6.1 A; Pto t (max): 0.5 W; QG: -2.9 nC; RDS (on) (max): 140 mOhm; RDS (on) (max) (@4.5V): 230 mOhm; Rth: 250 K/W; VDS (max): -30 V; VGS(th) (max): -2 V; VGS(th) (min): -1 V; DatasheetVersion: Rev. 2.3; PackageVersion: Apr-08; PackageReference: PG-SOT-363; PackageDescription: 6-Pin Small Outline Transistor Package, 2 x 1.25 mm Body, 0.65 mm Pitch; Halogen-free: TRUE; Packing: Reel; Mounting Technology: Surface Mount; ComponentLink1Description: Manufacturer URL; ComponentLink1URL: http://www.infineon.com/; ComponentLink2Description: Datasheet; ComponentLink2URL: http://www.infineon.com/dgdl/BSD314SPE_rev2.3.pdf?folderId=db3a304314dca38901154a72e3951a65&fileId=db3a3043321e49940132482ca5c6248a; ComponentLink3Description: Package Specification; ComponentLink3URL: http://www.infineon.com/dgdl/SOT363-Package_Overview.pdf?folderId=db3a30431936bc4b01195360bd8f3cdc&fileId=db3a30431936bc4b0119536b62bf3cf5
footprint INF-PG-SOT-363_N (SOT23, 3-Leads, Body 2x1.25mm, Pitch 0.65mm, IPC Medium Density)
footprint INF-PG-SOT-363_L (SOT23, 3-Leads, Body 2x1.25mm, Pitch 0.65mm, IPC High Density)
footprint INF-PG-SOT-363_M (SOT23, 3-Leads, Body 2x1.25mm, Pitch 0.65mm, IPC Low Density)
pins: 1 DRAIN, 2 DRAIN, 3 GATE, 4 SOURCE, 5 DRAIN, 6 DRAIN
text: 1, 2, 5, 6

## BSD316SN
designator Q?
OptiMOS 2 Small-Signal-Transistor, 30 V VDS, 1.4 A ID, PG-SOT-363, Reel, Green; Manufacturer: Infineon; PartNumber: BSD316SN; Green: TRUE; ID (max): 1.4 A; Polarity: N; RDS (on) (max): 160 mOhm; VDS (max): 30 V; DatasheetVersion: Rev. 2.4; PackageVersion: Apr-08; PackageReference: PG-SOT-363; PackageDescription: 6-Pin Small Outline Transistor Package, 2 x 1.25 mm Body, 0.65 mm Pitch; Halogen-free: TRUE; Packing: Reel; Mounting Technology: Surface Mount; ComponentLink1Description: Manufacturer URL; ComponentLink1URL: http://www.infineon.com/; ComponentLink2Description: Datasheet; ComponentLink2URL: http://www.infineon.com/dgdl/BSD316SN_Rev2.3.pdf?folderId=db3a3043156fd573011622e10b5c1f67&fileId=db3a30431add1d95011afc90c46a0521; ComponentLink3Description: Package Specification; ComponentLink3URL: http://www.infineon.com/dgdl/SOT363-Package_Overview.pdf?folderId=db3a30431936bc4b01195360bd8f3cdc&fileId=db3a30431936bc4b0119536b62bf3cf5
footprint INF-PG-SOT-363_N (SOT23, 3-Leads, Body 2x1.25mm, Pitch 0.65mm, IPC Medium Density)
footprint INF-PG-SOT-363_L (SOT23, 3-Leads, Body 2x1.25mm, Pitch 0.65mm, IPC High Density)
footprint INF-PG-SOT-363_M (SOT23, 3-Leads, Body 2x1.25mm, Pitch 0.65mm, IPC Low Density)
pins: 1 DRAIN, 2 DRAIN, 3 GATE, 4 SOURCE, 5 DRAIN, 6 DRAIN
text: 1, 2, 5, 6

## BSD816SN
designator Q?
N-Channel OptiMOS 2 Small-Signal-Transistor, 20 V VDS, 1.4 A ID, -55 to 150 degC, PG-SOT-363, Reel, Green; Manufacturer: Infineon; PartNumber: BSD816SN; Green: TRUE; ID (max): 1.4 A; IDpuls (max): 5.6 A; Ptot (max): 0.5 W; QG: 0.6 nC; RDS (on) (max): 160 mOhm; RDS (on) (max) (@1.8V): 240 mOhm; RthJA (max): 250 K/W; VDS (max): 20 V; VGS(th) (max): 0.95 V; VGS(th) (min): 0.3 V; DatasheetVersion: Rev. 2.3; PackageVersion: Apr-08; PackageReference: PG-SOT-363; PackageDescription: 6-Pin Small Outline Transistor Package, 2 x 1.25 mm Body, 0.65 mm Pitch; Halogen-free: TRUE; Packing: Reel; RDS (on) (max) (@2.5V): 160 mOhm; Mounting Technology: Surface Mount; ComponentLink1Description: Manufacturer URL; ComponentLink1URL: http://www.infineon.com/; ComponentLink2Description: Datasheet; ComponentLink2URL: http://www.infineon.com/dgdl/BSD816SN_Rev_2.3.pdf?folderId=db3a3043156fd573011622e10b5c1f67&fileId=db3a30431b0626df011b12af48627bf1; ComponentLink3Description: Package Specification; ComponentLink3URL: http://www.infineon.com/dgdl/SOT363-Package_Overview.pdf?folderId=db3a30431936bc4b01195360bd8f3cdc&fileId=db3a30431936bc4b0119536b62bf3cf5
footprint INF-PG-SOT-363_N (SOT23, 3-Leads, Body 2x1.25mm, Pitch 0.65mm, IPC Medium Density)
footprint INF-PG-SOT-363_L (SOT23, 3-Leads, Body 2x1.25mm, Pitch 0.65mm, IPC High Density)
footprint INF-PG-SOT-363_M (SOT23, 3-Leads, Body 2x1.25mm, Pitch 0.65mm, IPC Low Density)
pins: 1 DRAIN, 2 DRAIN, 3 GATE, 4 SOURCE, 5 DRAIN, 6 DRAIN
text: 1, 2, 5, 6

## BSD840N
designator Q?
N-Channel OptiMOS 2 Small-Signal-Transistor, 20 V VDS, 0.88 A ID, -55 to 150 degC, PG-SOT-363, Reel, Green; Manufacturer: Infineon; PartNumber: BSD840N; Green: TRUE; ID (max): 0.88 A; IDpuls (max): 3.5 A; Ptot (max): 0.5 W; QG: 0.26 nC; RDS (on) (max): 400 mOhm; RDS (on) (max) (@1.8V): 560 mOhm; RthJA (max): 250 K/W; VDS (max): 20 V; VGS(th) (max): 0.75 V; VGS(th) (min): 0.3 V; DatasheetVersion: Rev. 2.3; PackageVersion: Apr-08; PackageReference: PG-SOT-363; PackageDescription: 6-Pin Small Outline Transistor Package, 2 x 1.25 mm Body, 0.65 mm Pitch; Halogen-free: TRUE; Packing: Reel; RDS (on) (max) (@2.5V): 400 mOhm; Mounting Technology: Surface Mount; ComponentLink1Description: Manufacturer URL; ComponentLink1URL: http://www.infineon.com/; ComponentLink2Description: Datasheet; ComponentLink2URL: http://www.infineon.com/dgdl/BSD840N_Rev2.3_.pdf?folderId=db3a3043156fd573011622e10b5c1f67&fileId=db3a30431b0626df011b12b4486c7c02; ComponentLink3Description: Package Specification; ComponentLink3URL: http://www.infineon.com/dgdl/SOT363-Package_Overview.pdf?folderId=db3a30431936bc4b01195360bd8f3cdc&fileId=db3a30431936bc4b0119536b62bf3cf5
footprint INF-PG-SOT-363_N (SOT23, 3-Leads, Body 2x1.25mm, Pitch 0.65mm, IPC Medium Density)
footprint INF-PG-SOT-363_L (SOT23, 3-Leads, Body 2x1.25mm, Pitch 0.65mm, IPC High Density)
footprint INF-PG-SOT-363_M (SOT23, 3-Leads, Body 2x1.25mm, Pitch 0.65mm, IPC Low Density)
part A pins: 1 SOURCE, 2 GATE, 6 DRAIN
part B pins: 3 DRAIN, 4 SOURCE, 5 GATE

## BSF024N03LT3 G
designator Q?
N-Channel OptiMOS Power-MOSFET, 30 V VDS, 106 A ID, -40 to 150 degC, MG-WDSON-2-3, Reel, Green; Manufacturer: Infineon; PartNumber: BSF024N03LT3 G; Green: TRUE; ID (max): 106 A; IDpuls (max): 400 A; Polarity: N; Ptot (max): 42 W; QG: 53 nC; RDS (on) (max): 2.4 mOhm; RDS (on) (max) (@4.5V): 3.2 mOhm; Rth: 3 K/W; RthJA (max): 58 K/W; RthJC (max): 3 K/W; VDS (max): 30 V; VGS(th) (max): 2.2 V; VGS(th) (min): 1 V; DatasheetVersion: Rev. 2.1; PackageVersion: Jun-09; PackageReference: MG-WDSON-2-3; PackageDescription: 6-Pin Metal Green Very Very Thin Profile Dual Small Outline Non-Leaded Package; Supplier 1: Digi-Key; Supplier Part Number 1: BSF024N03LT3 GTR-ND; Supplier 2: Digi-Key; Supplier Part Number 2: BSF024N03LT3 GCT-ND; Supplier 3: Digi-Key; Supplier Part Number 3: BSF024N03LT3 GDKR-ND; Halogen-free: TRUE; Packing: Reel; Mounting Technology: Surface Mount; ComponentLink1Description: Manufacturer URL; ComponentLink1URL: http://www.infineon.com/; ComponentLink2Description: Datasheet; ComponentLink2URL: http://www.infineon.com/dgdl/BSF024N03LT3+G_Rev+2.1_pdf.pdf?folderId=db3a30431ddc9372011ebafa04517f8b&fileId=db3a30432239cccd012282adaadf7bc8; ComponentLink3Description: Package Specification; ComponentLink3URL: http://www.infineon.com/dgdl/MG-WDSON-2-SQ-Package_Overview.pdf?folderId=db3a30431f848401011fb7cee2b65964&fileId=db3a30431f848401011fb7f2e17b5981
footprint INF-MG-WDSON-2-3_V (WDDSON, 6-Leads, Body 4x3.83mm)
pins: 1 DRAIN, 2 DRAIN, 3 DRAIN, 4 DRAIN, 5 GATE, 6 SOURCE
text: 1, 2, 3, 4

## BSF030NE2LQ
designator Q?
N-Channel OptiMOS Power-MOSFET, 25 V VDS, 75 A ID, -40 to 150 degC, MG-WDSON-2-3, Reel, Green; Manufacturer: Infineon; PartNumber: BSF030NE2LQ; Green: TRUE; ID (max): 75 A; IDpuls (max): 300 A; Polarity: N; Ptot (max): 28 W; QG: 23 nC; RDS (on) (max): 3 mOhm; RDS (on) (max) (@4.5V): 4.1 mOhm; Rth: 4.5 K/W; RthJA (max): 58 K/W; RthJC (max): 4.5 K/W; VDS (max): 25 V; VGS(th) (max): 2 V; VGS(th) (min): 1.2 V; DatasheetVersion: Rev. 2.3; PackageVersion: Jun-09; PackageReference: MG-WDSON-2-3; PackageDescription: 6-Pin Metal Green Very Very Thin Profile Dual Small Outline Non-Leaded Package; Supplier 1: Mouser; Supplier Part Number 1: 726-BSF030NE2LQ; Supplier 2: Digi-Key; Supplier Part Number 2: BSF030NE2LQTR-ND; Supplier 3: Digi-Key; Supplier Part Number 3: BSF030NE2LQCT-ND; Supplier 4: Digi-Key; Supplier Part Number 4: BSF030NE2LQDKR-ND; Halogen-free: TRUE; Packing: Reel; Mounting Technology: Surface Mount; ComponentLink1Description: Manufacturer URL; ComponentLink1URL: http://www.infineon.com/; ComponentLink2Description: Datasheet; ComponentLink2URL: http://www.infineon.com/dgdl/BSF030NE2LQ_Rev+2.3.pdf?folderId=db3a304313b8b5a60113cee8763b02d7&fileId=db3a30432e398416012e47a8f0792588; ComponentLink3Description: Package Specification; ComponentLink3URL: http://www.infineon.com/dgdl/MG-WDSON-2-SQ-Package_Overview.pdf?folderId=db3a30431f848401011fb7cee2b65964&fileId=db3a30431f848401011fb7f2e17b5981
footprint INF-MG-WDSON-2-3_V (WDDSON, 6-Leads, Body 4x3.83mm)
pins: 1 DRAIN, 2 DRAIN, 3 DRAIN, 4 DRAIN, 5 GATE, 6 SOURCE
text: 1, 2, 3, 4

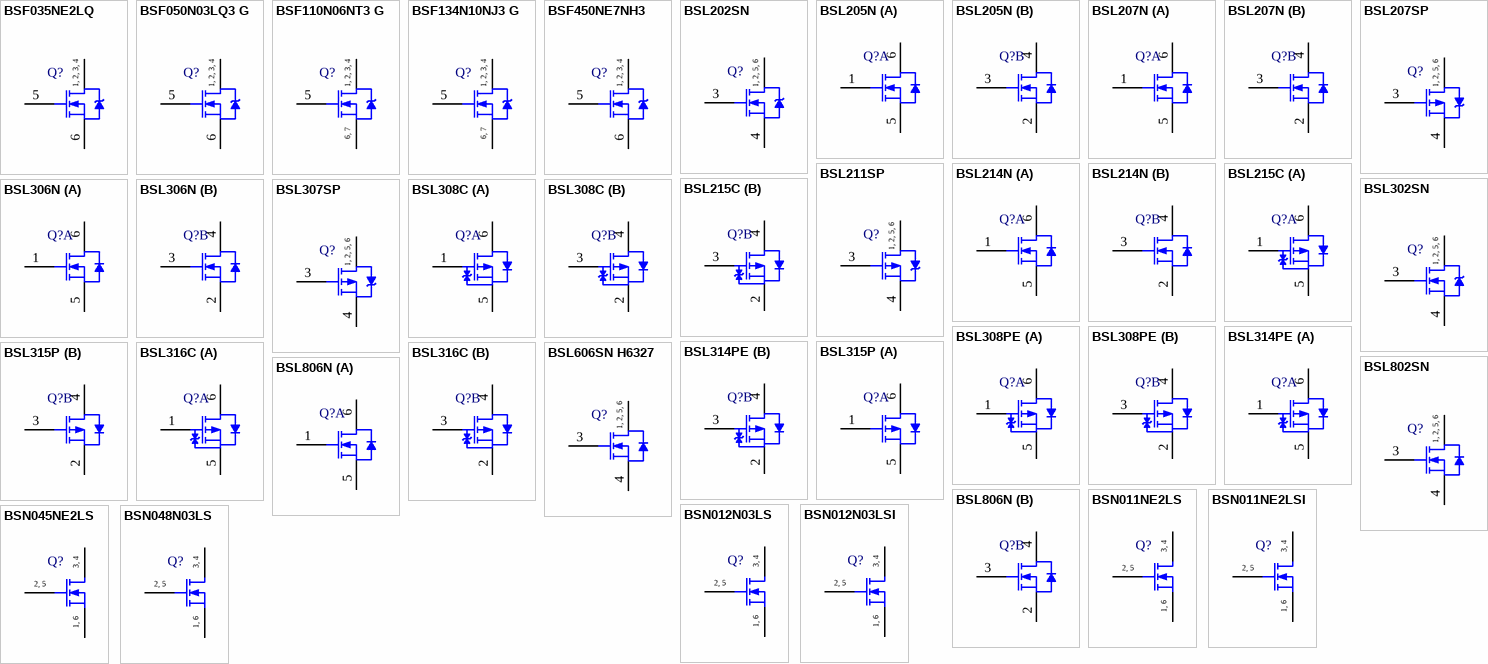
[diagram p4: symbols BSF035NE2LQ to BSN048N03LS]

## BSF035NE2LQ
designator Q?
N-Channel OptiMOS(TM) Power-MOSFET, 25 V VDS, 69 A ID, -40 to 150 degC, MG-WDSON-2, Reel, Green; Manufacturer: Infineon; PartNumber: BSF035NE2LQ; Green: TRUE; ID (max): 69 A; IDpuls (max): 276 A; Polarity: FALSE; Ptot (max): 28 W; QG: 9.1 nC; RDS (on) (max): 3.5 mOhm; RthJA (max): 58 K/W; RthJC (max): 1 K/W; VDS (max): 25 V; VGS(th) (max): 2 V; VGS(th) (min): 1.2 V; DatasheetVersion: Rev. 1.3; PackageVersion: Jun-09; PackageReference: MG-WDSON-2-3; PackageDescription: 6-Pin Metal Green Very Very Thin Profile Dual Small Outline Non-Leaded Package; Supplier 1: Mouser; Supplier Part Number 1: N/A; Halogen-free: TRUE; Packing: Reel; Technology: OptiMOS(TM); Mounting Technology: Surface Mount; ComponentLink1Description: Manufacturer URL; ComponentLink1URL: http://www.infineon.com/; ComponentLink2Description: Datasheet; ComponentLink2URL: http://www.infineon.com/dgdl/BSF035NE2LQ_rev1.3.pdf?folderId=db3a304313b8b5a60113cee8763b02d7&fileId=db3a30433f764301013f7fe8a925463c; ComponentLink3Description: Package Specification; ComponentLink3URL: http://www.infineon.com/dgdl/MG-WDSON-2-SQ-Package_Overview.pdf?folderId=db3a30431f848401011fb7cee2b65964&fileId=db3a30431f848401011fb7f2e17b5981
footprint INF-MG-WDSON-2-3_V (WDDSON, 6-Leads, Body 4x3.83mm)
pins: 1 DRAIN, 2 DRAIN, 3 DRAIN, 4 DRAIN, 5 GATE, 6 SOURCE
text: 1, 2, 3, 4

## BSF050N03LQ3 G
designator Q?
N-Channel OptiMOS Power-MOSFET, 30 V VDS, 60 A ID, -40 to 150 degC, MG-WDSON-2-3, Reel, Green; Manufacturer: Infineon; PartNumber: BSF050N03LQ3 G; Green: TRUE; ID (max): 60 A; IDpuls (max): 240 A; Polarity: N; Ptot (max): 28 W; QG: 25 nC; RDS (on) (max): 5 mOhm; RDS (on) (max) (@4.5V): 7 mOhm; Rth: 4.5 K/W; RthJA (max): 58 K/W; VDS (max): 30 V; VGS(th) (max): 2.2 V; VGS(th) (min): 1 V; DatasheetVersion: Rev. 2.2; PackageVersion: Jun-09; PackageReference: MG-WDSON-2-3; PackageDescription: 6-Pin Metal Green Very Very Thin Profile Dual Small Outline Non-Leaded Package; Supplier 1: Mouser; Supplier Part Number 1: 726-BSF050N03LQ3G; Supplier 2: Digi-Key; Supplier Part Number 2: BSF050N03LQ3 GTR-ND; Supplier 3: Digi-Key; Supplier Part Number 3: BSF050N03LQ3 GCT-ND; Supplier 4: Digi-Key; Supplier Part Number 4: BSF050N03LQ3 GDKR-ND; Halogen-free: TRUE; Packing: Reel; RthJC (max): 4.5 K/W; Mounting Technology: Surface Mount; ComponentLink1Description: Manufacturer URL; ComponentLink1URL: http://www.infineon.com/; ComponentLink2Description: Datasheet; ComponentLink2URL: http://www.infineon.com/dgdl/BSF050N03LQ3+G_Rev+2.2.pdf?folderId=db3a304313b8b5a60113cee8763b02d7&fileId=db3a304320d39d590121a0f584407b1c; ComponentLink3Description: Package Specification; ComponentLink3URL: http://www.infineon.com/dgdl/MG-WDSON-2-SQ-Package_Overview.pdf?folderId=db3a30431f848401011fb7cee2b65964&fileId=db3a30431f848401011fb7f2e17b5981
footprint INF-MG-WDSON-2-3_V (WDDSON, 6-Leads, Body 4x3.83mm)
pins: 1 DRAIN, 2 DRAIN, 3 DRAIN, 4 DRAIN, 5 GATE, 6 SOURCE
text: 1, 2, 3, 4

## BSF110N06NT3 G
designator Q?
N-Channel OptiMOS 3 Power-MOSFET, 60 V VDS, 47 A ID, -40 to 150 degC, MG-WDSON-2-4, Reel, Green; Manufacturer: Infineon; PartNumber: BSF110N06NT3 G; Green: TRUE; ID (max): 47 A; IDpuls (max): 188 A; Polarity: N; Ptot (max): 38 W; QG: 34 nC; RDS (on) (max): 11 Ohm; Rth: 1 K/W; RthJA (max): 58 K/W; VDS (max): 60 V; VGS(th) (max): 4 V; VGS(th) (min): 2 V; DatasheetVersion: Rev. 2.0; PackageVersion: Jun-09; PackageReference: MG-WDSON-2-4; PackageDescription: 7-Pin Metal Green Very Very Thin Profile Dual Small Outline Non-Leaded Package; Halogen-free: TRUE; Packing: Reel; RthJC (max): 1 K/W; Mounting Technology: Surface Mount; ComponentLink1Description: Manufacturer URL; ComponentLink1URL: http://www.infineon.com/; ComponentLink2Description: Datasheet; ComponentLink2URL: http://www.infineon.com/dgdl/BSF110N06NT3_G_rev2.pdf?folderId=db3a304313b8b5a60113cee8763b02d7&fileId=db3a3043382e837301387b92fdc80c37; ComponentLink3Description: Package Specification; ComponentLink3URL: http://www.infineon.com/dgdl/MG-WDSON-2-ST-Package_Overview.pdf?folderId=db3a30431f848401011fb8308495599c&fileId=db3a30431f848401011fb895d87a59e6
footprint INF-MG-WDSON-2-4_V (WDSON, 7-Leads, Body 4x3.83mm)
pins: 1 DRAIN, 2 DRAIN, 3 DRAIN, 4 DRAIN, 5 GATE, 6 SOURCE, 7 SOURCE
text: 1, 2, 3, 4; 6, 7

## BSF134N10NJ3 G
designator Q?
N-Channel OptiMOS Power-MOSFET, 100 V VDS, 40 A ID, -40 to 150 degC, MG-WDSON-2, Reel, Green; Manufacturer: Infineon; PartNumber: BSF134N10NJ3 G; Green: TRUE; ID (max): 40 A; IDpuls (max): 160 A; Polarity: N; Ptot (max): 43 W; QG: 23 nC; RDS (on) (max): 13.4 mOhm; Rth: 2.9 K/W; RthJA (max): 58 K/W; VDS (max): 100 V; VGS(th) (max): 3.5 V; VGS(th) (min): 2 V; DatasheetVersion: Rev. 2.5; PackageVersion: Rev. 02, 05/2009; PackageReference: MG-WDSON-2; PackageDescription: 7-Pin Metal Green Very Very Thin Profile Dual Small Outline Non-Leaded Package; Supplier 1: Mouser; Supplier Part Number 1: 726-BSF134N10NJ3G; Supplier 2: Digi-Key; Supplier Part Number 2: BSF134N10NJ3 GTR-ND; Supplier 3: Digi-Key; Supplier Part Number 3: BSF134N10NJ3 GCT-ND; Supplier 4: Digi-Key; Supplier Part Number 4: BSF134N10NJ3 GDKR-ND; Halogen-free: TRUE; Packing: Reel; RthJC (max): 2.9 K/W; Mounting Technology: Surface Mount; ComponentLink1Description: Manufacturer URL; ComponentLink1URL: http://www.infineon.com/; ComponentLink2Description: Datasheet; ComponentLink2URL: http://www.infineon.com/dgdl/BSF134N10NJ3+G_Rev+2.5.pdf?folderId=db3a304313b8b5a60113cee8763b02d7&fileId=db3a30432e779412012e7afa4a6c3834; ComponentLink3Description: Package Specification; ComponentLink3URL: http://www.infineon.com/dgdl/BSF134N10NJ3+G_Rev+2.5.pdf?folderId=db3a304313b8b5a60113cee8763b02d7&fileId=db3a30432e779412012e7afa4a6c3834
footprint INF-MG-WDSON-2-BSF134N10NJ3_V (WDSON, 7-Leads, Body 4.015x3.825mm)
pins: 1 DRAIN, 2 DRAIN, 3 DRAIN, 4 DRAIN, 5 GATE, 6 SOURCE, 7 SOURCE
text: 1, 2, 3, 4; 6, 7